# Altium schematic symbol library CAP_0603.SchLib: 1 symbol
Pins are listed as number, name and electrical type; pins without a type are passive.

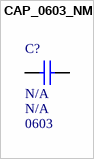
[diagram p0: symbol CAP_0603_NM]

## CAP_0603_NM
designator C?, comment Package / Case: 0603  (hidden comment: CAP_0603)
CAP, size 0603, NM, N/A; Packaging: Tape and Reel; Supplier URL: N/A; Tolerance: N/A; Supplier: N/A; Supplier Part Number: N/A; ComponentLink1Description: Datasheet; ComponentLink1URL: N/A; Mount: SMD/SMT; Operating Temperature Max: + 85 C; Operating Temperature Min: - 40 C; Voltage Rating DC: N/A; Capacitance: N/A
footprint CAP_0603
pins: 1, 2